# EAGLE library part ADS8588SIPM (library ADS8588SIPM)
Analog to Digital Converters - ADC 16-Bit High-Speed 8-Channel Simultaneous-Sampling ADC With Bipolar Inputs on a Single Supply 64-LQFP -40 to 125 Source: Datasheet <http://www.ti.com/lit/ds/symlink/ads8588s.pdf>
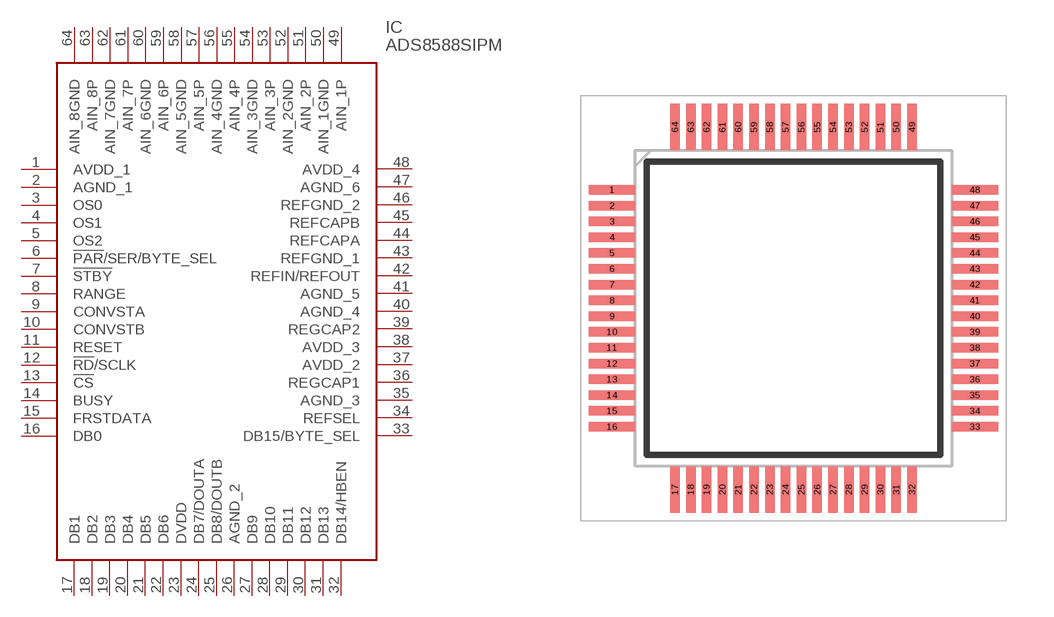
[diagram p0: symbol with the pads of QFP50P1200X1200X160-64N; footprint QFP50P1200X1200X160-64N]

Designator prefix IC

## ADS8588SIPM (Description: Analog to Digital Converters - ADC 16-Bit High-Speed 8-Channel Simultaneous-Sampling ADC With Bipolar Inputs on a Single Supply 64-LQFP -40 to 125; Height: 1.6mm; Manufacturer_Name: Texas Instruments; Manufacturer_Part_Number: ADS8588SIPM; Mouser_Part_Number: 595-ADS8588SIPM; Mouser_Price-Stock: https://www.mouser.co.uk/ProductDetail/Texas-Instruments/ADS8588SIPM?qs=34RfhUjJmKeOcrHblOaiNQ%3D%3D)  [QFP50P1200X1200X160-64N]
1  AVDD_1
2  AGND_1
3  OS0
4  OS1
5  OS2
6  !PAR!/SER/BYTE_SEL
7  !STBY
8  RANGE
9  CONVSTA
10  CONVSTB
11  RESET
12  !RD!/SCLK
13  !CS
14  BUSY
15  FRSTDATA
16  DB0
17  DB1
18  DB2
19  DB3
20  DB4
21  DB5
22  DB6
23  DVDD
24  DB7/DOUTA
25  DB8/DOUTB
26  AGND_2
27  DB9
28  DB10
29  DB11
30  DB12
31  DB13
32  DB14/HBEN
33  DB15/BYTE_SEL
34  REFSEL
35  AGND_3
36  REGCAP1
37  AVDD_2
38  AVDD_3
39  REGCAP2
40  AGND_4
41  AGND_5
42  REFIN/REFOUT
43  REFGND_1
44  REFCAPA
45  REFCAPB
46  REFGND_2
47  AGND_6
48  AVDD_4
49  AIN_1P
50  AIN_1GND
51  AIN_2P
52  AIN_2GND
53  AIN_3P
54  AIN_3GND
55  AIN_4P
56  AIN_4GND
57  AIN_5P
58  AIN_5GND
59  AIN_6P
60  AIN_6GND
61  AIN_7P
62  AIN_7GND
63  AIN_8P
64  AIN_8GND

## Footprint QFP50P1200X1200X160-64N (pad centres in mm)
ADS8588SIP
smd 1.475 x 0.3: 1 -5.738,3.75; 2 -5.738,3.25; 3 -5.738,2.75; 4 -5.738,2.25; 5 -5.738,1.75; 6 -5.738,1.25; 7 -5.738,0.75; 8 -5.738,0.25; 9 -5.738,-0.25; 10 -5.738,-0.75; 11 -5.738,-1.25; 12 -5.738,-1.75; 13 -5.738,-2.25; 14 -5.738,-2.75; 15 -5.738,-3.25; 16 -5.738,-3.75; 33 5.738,-3.75; 34 5.738,-3.25; 35 5.738,-2.75; 36 5.738,-2.25; 37 5.738,-1.75; 38 5.738,-1.25; 39 5.738,-0.75; 40 5.738,-0.25; 41 5.738,0.25; 42 5.738,0.75; 43 5.738,1.25; 44 5.738,1.75; 45 5.738,2.25; 46 5.738,2.75; 47 5.738,3.25; 48 5.738,3.75
smd 0.3 x 1.475: 17 -3.75,-5.738; 18 -3.25,-5.738; 19 -2.75,-5.738; 20 -2.25,-5.738; 21 -1.75,-5.738; 22 -1.25,-5.738; 23 -0.75,-5.738; 24 -0.25,-5.738; 25 0.25,-5.738; 26 0.75,-5.738; 27 1.25,-5.738; 28 1.75,-5.738; 29 2.25,-5.738; 30 2.75,-5.738; 31 3.25,-5.738; 32 3.75,-5.738; 49 3.75,5.738; 50 3.25,5.738; 51 2.75,5.738; 52 2.25,5.738; 53 1.75,5.738; 54 1.25,5.738; 55 0.75,5.738; 56 0.25,5.738; 57 -0.25,5.738; 58 -0.75,5.738; 59 -1.25,5.738; 60 -1.75,5.738; 61 -2.25,5.738; 62 -2.75,5.738; 63 -3.25,5.738; 64 -3.75,5.738